# Altium schematic symbol library Schlib1.SchLib: 1 symbol
Pins are listed as number, name and electrical type; pins without a type are passive.

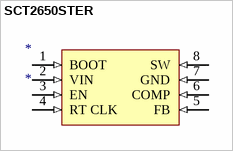
[diagram p0: symbol SCT2650STER]

## SCT2650STER
designator *
footprint SCT2650STER (4.5V-60V Vin,5A, High Efficiency Step-down DCDC Converter with Programmable Frequency)
pins: 1 BOOT (in), 2 VIN (in), 3 EN (in), 4 RT CLK (in), 5 FB (in), 6 COMP (in), 7 GND (in), 8 SW (in)